# EAGLE library part MSP430FR5739_DA_38 (library TexasInstruments)
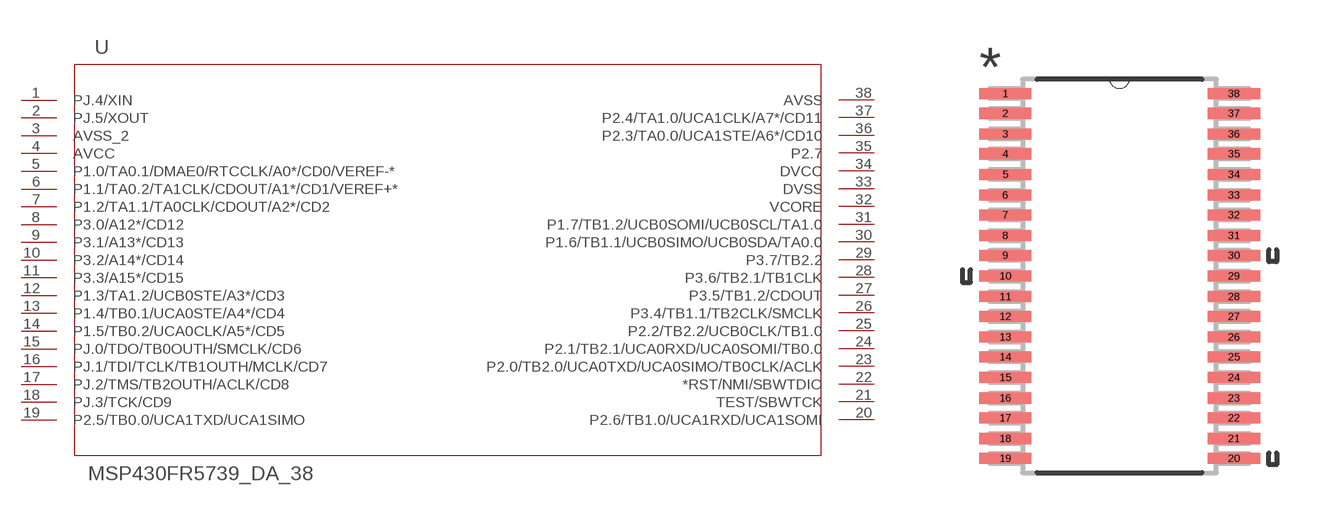
[diagram p0: symbol with the pads of DA38; footprint DA38]

Designator prefix U

## MSP430FR5739_DA_38 (DATASHEETURL: http://www.ti.com/lit/gpn/MSP430FR5739; DESCRIPTION: MSP430FR573x,MSP430FR572x Mixed Signal Microcontroller; FAMILY_NAME: FRAM Series; GENERIC_PART_NUMBER: MSP430FR5739; INDUSTRY_STD_PKG_TYPE: TSSOP; MANUFACTURER: Texas Instruments; MANUFACTURER_PART_NUMBER: msp430fr5739_da_38; PACKAGE_DESIGNATOR: DA; PIN_COUNT: 38; VENDOR: Texas Instruments)  [DA38]
1  PJ.4/XIN
2  PJ.5/XOUT
3  AVSS_2  pwr
4  AVCC  pwr
5  P1.0/TA0.1/DMAE0/RTCCLK/A0*/CD0/VEREF-*
6  P1.1/TA0.2/TA1CLK/CDOUT/A1*/CD1/VEREF+*
7  P1.2/TA1.1/TA0CLK/CDOUT/A2*/CD2
8  P3.0/A12*/CD12
9  P3.1/A13*/CD13
10  P3.2/A14*/CD14
11  P3.3/A15*/CD15
12  P1.3/TA1.2/UCB0STE/A3*/CD3
13  P1.4/TB0.1/UCA0STE/A4*/CD4
14  P1.5/TB0.2/UCA0CLK/A5*/CD5
15  PJ.0/TDO/TB0OUTH/SMCLK/CD6
16  PJ.1/TDI/TCLK/TB1OUTH/MCLK/CD7
17  PJ.2/TMS/TB2OUTH/ACLK/CD8
18  PJ.3/TCK/CD9
19  P2.5/TB0.0/UCA1TXD/UCA1SIMO
20  P2.6/TB1.0/UCA1RXD/UCA1SOMI
21  TEST/SBWTCK
22  *RST/NMI/SBWTDIO
23  P2.0/TB2.0/UCA0TXD/UCA0SIMO/TB0CLK/ACLK
24  P2.1/TB2.1/UCA0RXD/UCA0SOMI/TB0.0
25  P2.2/TB2.2/UCB0CLK/TB1.0
26  P3.4/TB1.1/TB2CLK/SMCLK
27  P3.5/TB1.2/CDOUT
28  P3.6/TB2.1/TB1CLK
29  P3.7/TB2.2
30  P1.6/TB1.1/UCB0SIMO/UCB0SDA/TA0.0
31  P1.7/TB1.2/UCB0SOMI/UCB0SCL/TA1.0
32  VCORE  pwr
33  DVSS  pwr
34  DVCC  pwr
35  P2.7
36  P2.3/TA0.0/UCA1STE/A6*/CD10
37  P2.4/TA1.0/UCA1CLK/A7*/CD11
38  AVSS  pwr

## Footprint DA38 (pad centres in mm)
smd 1.676 x 0.356: 1 -3.658,5.842; 2 -3.658,5.207; 3 -3.658,4.547; 4 -3.658,3.912; 5 -3.658,3.251; 6 -3.658,2.591; 7 -3.658,1.956; 8 -3.658,1.295; 9 -3.658,0.66; 10 -3.658,0; 11 -3.658,-0.66; 12 -3.658,-1.295; 13 -3.658,-1.956; 14 -3.658,-2.591; 15 -3.658,-3.251; 16 -3.658,-3.912; 17 -3.658,-4.547; 18 -3.658,-5.207; 19 -3.658,-5.842; 20 3.658,-5.842; 21 3.658,-5.207; 22 3.658,-4.547; 23 3.658,-3.912; 24 3.658,-3.251; 25 3.658,-2.591; 26 3.658,-1.956; 27 3.658,-1.295; 28 3.658,-0.66; 29 3.658,0; 30 3.658,0.66; 31 3.658,1.295; 32 3.658,1.956; 33 3.658,2.591; 34 3.658,3.251; 35 3.658,3.912; 36 3.658,4.547; 37 3.658,5.207; 38 3.658,5.842